# Altium schematic symbol library Controller.SchLib: 8 symbols
Pins are listed as number, name and electrical type; pins without a type are passive.

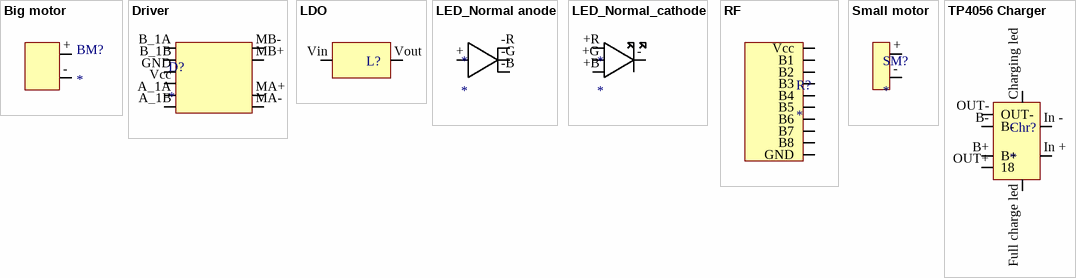
[diagram p0: symbols Big motor to TP4056 Charger]

## Big motor
designator BM?
pins: +, -

## Driver
designator D?
pins: A_1A, A_1B, B_1A, B_1B, GND, MA+, MA-, MB+, MB-, Vcc

## LDO
designator L?, comment L?  (value not drawn)
pins: Vin, Vout

## LED_Normal anode
designator *
pins: +, -B, -G, -R

## LED_Normal_cathode
designator *
pins: +B, +G, +R, -

## RF
designator R?
pins: B1, B2, B3, B4, B5, B6, B7, B8, GND, Vcc

## Small motor
designator SM?
pins: +, -

## TP4056 Charger
designator Chr?
pins: B+, B-, Charging led, Full charge led, In +, In - , OUT+ 18, OUT-